# EAGLE library part TMDS_A (library reclone-rise)
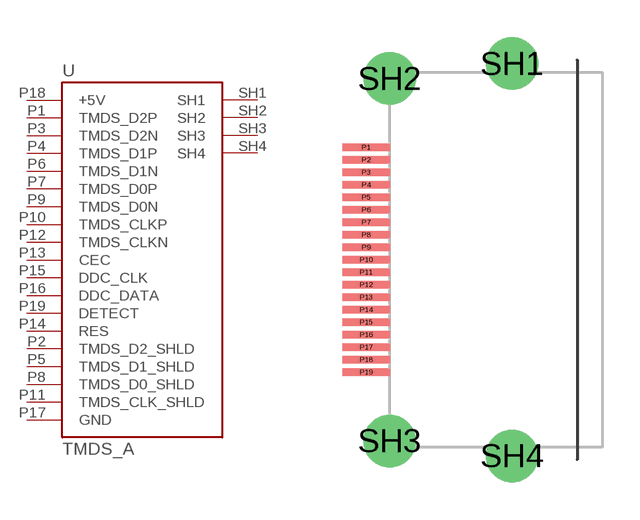
[diagram p2: symbol with the pads of TMDS_A_SMT; footprint TMDS_A_SMT]

Designator prefix -

## TMDS_A  [TMDS_A_SMT]
P1  TMDS_D2P
P2  TMDS_D2_SHLD
P3  TMDS_D2N
P4  TMDS_D1P
P5  TMDS_D1_SHLD
P6  TMDS_D1N
P7  TMDS_D0P
P8  TMDS_D0_SHLD
P9  TMDS_D0N
P10  TMDS_CLKP
P11  TMDS_CLK_SHLD
P12  TMDS_CLKN
P13  CEC
P14  RES
P15  DDC_CLK
P16  DDC_DATA
P17  GND
P18  +5V
P19  DETECT
SH1  SH1
SH2  SH2
SH3  SH3
SH4  SH4

## Footprint TMDS_A_SMT (pad centres in mm)
smd 1.9 x 0.3: P1 -4.76,4.5; P2 -4.76,4; P3 -4.76,3.5; P4 -4.76,3; P5 -4.76,2.5; P6 -4.76,2; P7 -4.76,1.5; P8 -4.76,1; P9 -4.76,0.5; P10 -4.76,0; P11 -4.76,-0.5; P12 -4.76,-1; P13 -4.76,-1.5; P14 -4.76,-2; P15 -4.76,-2.5; P16 -4.76,-3; P17 -4.76,-3.5; P18 -4.76,-4; P19 -4.76,-4.5
drill 1.4: SH1 1.09,7.85; SH2 -3.81,7.25; SH3 -3.81,-7.25; SH4 1.09,-7.85